# EAGLE library part 734-240 (library con-wago_3.81mm)
Serie 734, Stiftleiste (für Leiterplatten) Einlötstift gerade 1 x 1 mm / Series 734, Male header (for PCBs) Straight solder pin 1 x 1 mm Polzahl / Pole No.: 10 Rastermaß / Pitch: 3.81 mm Bemessungsspannung / Rated Voltage: 160 V Nennstrom / Nominal Current: 10 A Lötstiftlänge: / Solder Pin Length: 4.5 mm Farbe / Color: orange / orange Stand: 01.01.2012. Die jeweils aktuellen Daten zu diesem Artikel finden Sie in unserem Produktkatalog, den Sie unter www.wago.com einsehen können. As of: 01/01/2012. Please find the newest data for this article in our product catalogue, which can be viewed under www.wago.com.
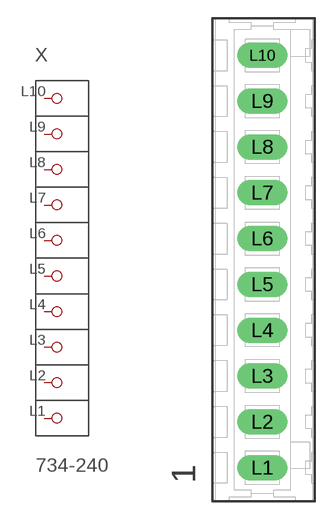
[diagram p3: symbol with the pads of P-734-240; footprint P-734-240]

Designator prefix X

## 734-240  [P-734-240]
L1  P1.1
L2  P2
L3  P3
L4  P4
L5  P5
L6  P6
L7  P7
L8  P8
L9  P9
L10  P10

## Footprint P-734-240 (pad centres in mm)
drill 1.4 long: L1 -0.1,-17.295; L2 -0.1,-13.485; L3 -0.1,-9.675; L4 -0.1,-5.865; L5 -0.1,-2.055; L6 -0.1,1.755; L7 -0.1,5.565; L8 -0.1,9.375; L9 -0.1,13.185; L10 -0.1,16.995